# EAGLE library part DOOBA_AECHO (library dooba)
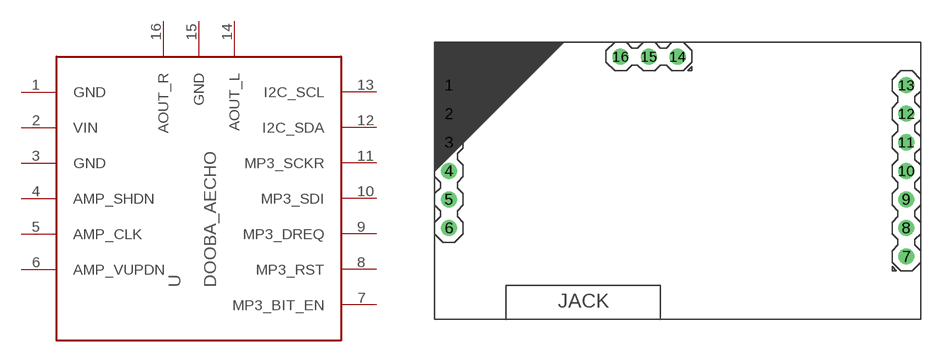
[diagram p31: symbol with the pads of DOOBA_AECHO; footprint DOOBA_AECHO]

Designator prefix U

## DOOBA_AECHOAOUT  [DOOBA_AECHO]
1  GND
2  VIN
3  GND
4  AMP_SHDN
5  AMP_CLK
6  AMP_VUPDN
7  MP3_BIT_EN
8  MP3_RST
9  MP3_DREQ
10  MP3_SDI
11  MP3_SCKR
12  I2C_SDA
13  I2C_SCL
14  AOUT_L
15  GND
16  AOUT_R

## Footprint DOOBA_AECHO (pad centres in mm)
drill 0.8 pad 1.422: 1 -20.32,6.35; 2 -20.32,3.81; 3 -20.32,1.27; 4 -20.32,-1.27; 5 -20.32,-3.81; 6 -20.32,-6.35; 7 20.32,-8.89; 8 20.32,-6.35; 9 20.32,-3.81; 10 20.32,-1.27; 11 20.32,1.27; 12 20.32,3.81; 13 20.32,6.35; 14 0,8.89; 15 -2.54,8.89; 16 -5.08,8.89